# EAGLE library part SW-DIP5 (library Mechanical)
Dip Switch, 5 position
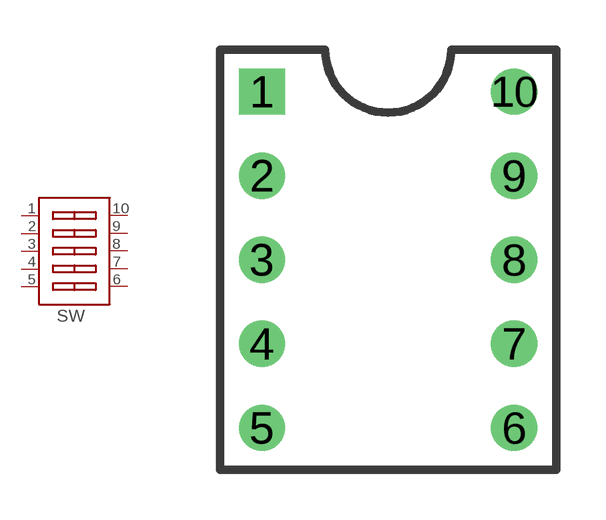
[diagram p26: symbol with the pads of DIP-10C; footprint DIP-10C]

Designator prefix SW

## SW-DIP5T  [DIP-10C]
1  1A  pas
2  2A  pas
3  3A  pas
4  4A  pas
5  5A  pas
6  5B  pas
7  4B  pas
8  3B  pas
9  2B  pas
10  1B  pas

## Footprint DIP-10C (pad centres in mm)
drill 0.889 square: 1 -3.81,5.08
drill 0.889: 2 -3.81,2.54; 3 -3.81,0; 4 -3.81,-2.54; 5 -3.81,-5.08; 6 3.81,-5.08; 7 3.81,-2.54; 8 3.81,0; 9 3.81,2.54; 10 3.81,5.08